# EAGLE library part DRV8800 (library MDB_HOME_BACK2)
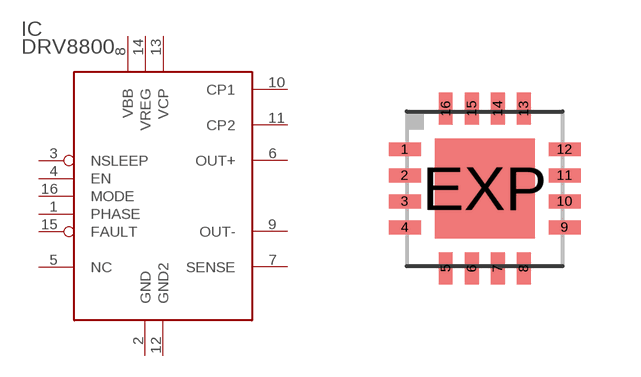
[diagram p9: symbol with the pads of QFN16-4X4; footprint QFN16-4X4]

Designator prefix IC

## DRV8800_4X4  [QFN16-4X4]
1  PHASE  in
2  GND  pwr
3  NSLEEP  in
4  EN  in
5  NC  nc
6  OUT+  out
7  SENSE
8  VBB  pwr
9  OUT-  out
10  CP1
11  CP2
12  GND2  pwr
13  VCP
14  VREG
15  FAULT  oc
16  MODE  in

## Footprint QFN16-4X4 (pad centres in mm)
16-Lead Plastic Quad Flat, No Lead Package (ML) - 4x4x0.9mm Body [QFN] Source: http://ww1.microchip.com/downloads/en/DeviceDoc/41203E.pdf
smd 0.8 x 0.35: 1 -2,0.975; 2 -2,0.325; 3 -2,-0.325; 4 -2,-0.975; 9 2,-0.975; 10 2,-0.325; 11 2,0.325; 12 2,0.975
smd 0.35 x 0.8: 5 -0.975,-2; 6 -0.325,-2; 7 0.325,-2; 8 0.975,-2; 13 0.975,2; 14 0.325,2; 15 -0.325,2; 16 -0.975,2
smd 2.5 x 2.5: EXP 0,0